# EAGLE library part SPRING_BTB_8POS_MALE (library thanics_robotics)
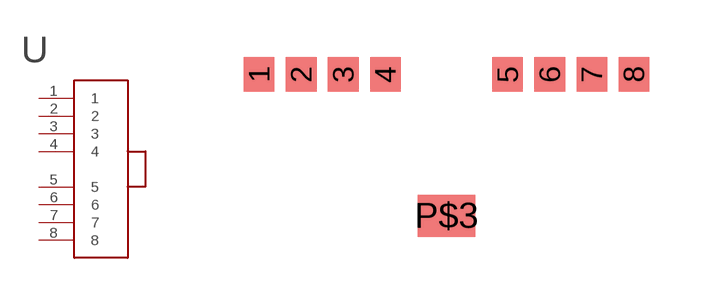
[diagram p27: symbol with the pads of SPRING_BTB_8POS_MALE; footprint SPRING_BTB_8POS_MALE]

Designator prefix -

## SPRING_BTB_8POS_MALE  [SPRING_BTB_8POS_MALE]
1  1
2  2
3  3
4  4
5  5
6  6
7  7
8  8

## Footprint SPRING_BTB_8POS_MALE (pad centres in mm)
smd 0.8 x 0.9: 1 -4.9,0; 2 -3.8,0; 3 -2.7,0; 4 -1.6,0; 5 1.6,0; 6 2.7,0; 7 3.8,0; 8 4.9,0
smd 1.5 x 1.1: P$3 0,-3.7